# EAGLE library part 555 (library BME_Components)
Precision Timer, 4.5 to 16 V, 0 to 70 degC, 8-Pin SOIC (D), Green (RoHS & no Sb/Br), Tube
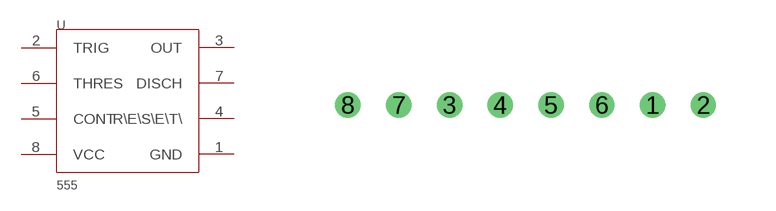
[diagram p32: symbol with the pads of 555_PDIP-8; footprint 555_PDIP-8]

Designator prefix U

## 555555_555_PDIP-8 (BASE_NUMBER: 555; CLOCK_EXTERNAL_INPUT: No; DATASHEET_VERSION: Rev. I, 09/2014; DEVICE_MARKING: NE555D; DIGITAL_IC_CASE_STYLE: SOIC; FREQUENCY: 500kHz; IC_GENERIC_NUMBER: 555; IC_TEMPERATURE_RANGE: Commercial; LOGIC_FUNCTION_NUMBER: 555; MANUFACTURER: Texas Instruments; MANUFACTURER_URL: http://www.ti.com/; MOUNTING_TECHNOLOGY: SurfaceMount; NO._OF_CHANNELS: 1; NO._OF_PINS: 8; NO._OF_TIMERS: 1; OPERATING_FREQUENCY_MAX: 0.5MHz; OPERATING_MODE: Astable,Monostable; OPERATING_TEMPERATURE_MAX: 70�C; OPERATING_TEMPERATURE_MIN: 0�C; OPERATING_TEMPERATURE_RANGE: 0�Cto+70�C; PACKAGE_/_CASE: SOIC; PACKAGE_DESCRIPTION: 8-Pin Small Outline Integrated Circuit, Body 4.9 x 3.9 mm, Pitch 1.27 mm; PACKAGE_REFERENCE: D8; PACKAGE_URL: http://www.ti.com/lit/ml/msoi002j/msoi002j.pdf; PARTNUMBER: NE555; SUPPLY_VOLTAGE_MAX: 16V; SUPPLY_VOLTAGE_MIN: 4.5V; SUPPLY_VOLTAGE_RANGE: 4.5Vto16V; SVHC: NoSVHC(19-Dec-2012))  [555_PDIP-8]
1  GND  pwr
2  TRIG  in
3  OUT  out
4  R\E\S\E\T\  in
5  CONT  in
6  THRES  in
7  DISCH  oc
8  VCC  pwr

## Footprint 555_PDIP-8 (pad centres in mm)
drill 0.127 pad 0.254 round: 1 7.62,0; 2 8.89,0; 3 2.54,0; 4 3.81,0; 5 5.08,0; 6 6.35,0; 7 1.27,0; 8 0,0